# Altium footprint library DecoLED.PcbLib: 14 footprints
Each footprint in its own frame and in the unit in brackets; x right, y up, seen from the top. Pads: shape width x height; smd on the part's side, far side on the other; paste and mask are expansions set on the pad; w line width, h text height; cw(c..) or ccw(c..) is an arc to the next point about the centre after c.
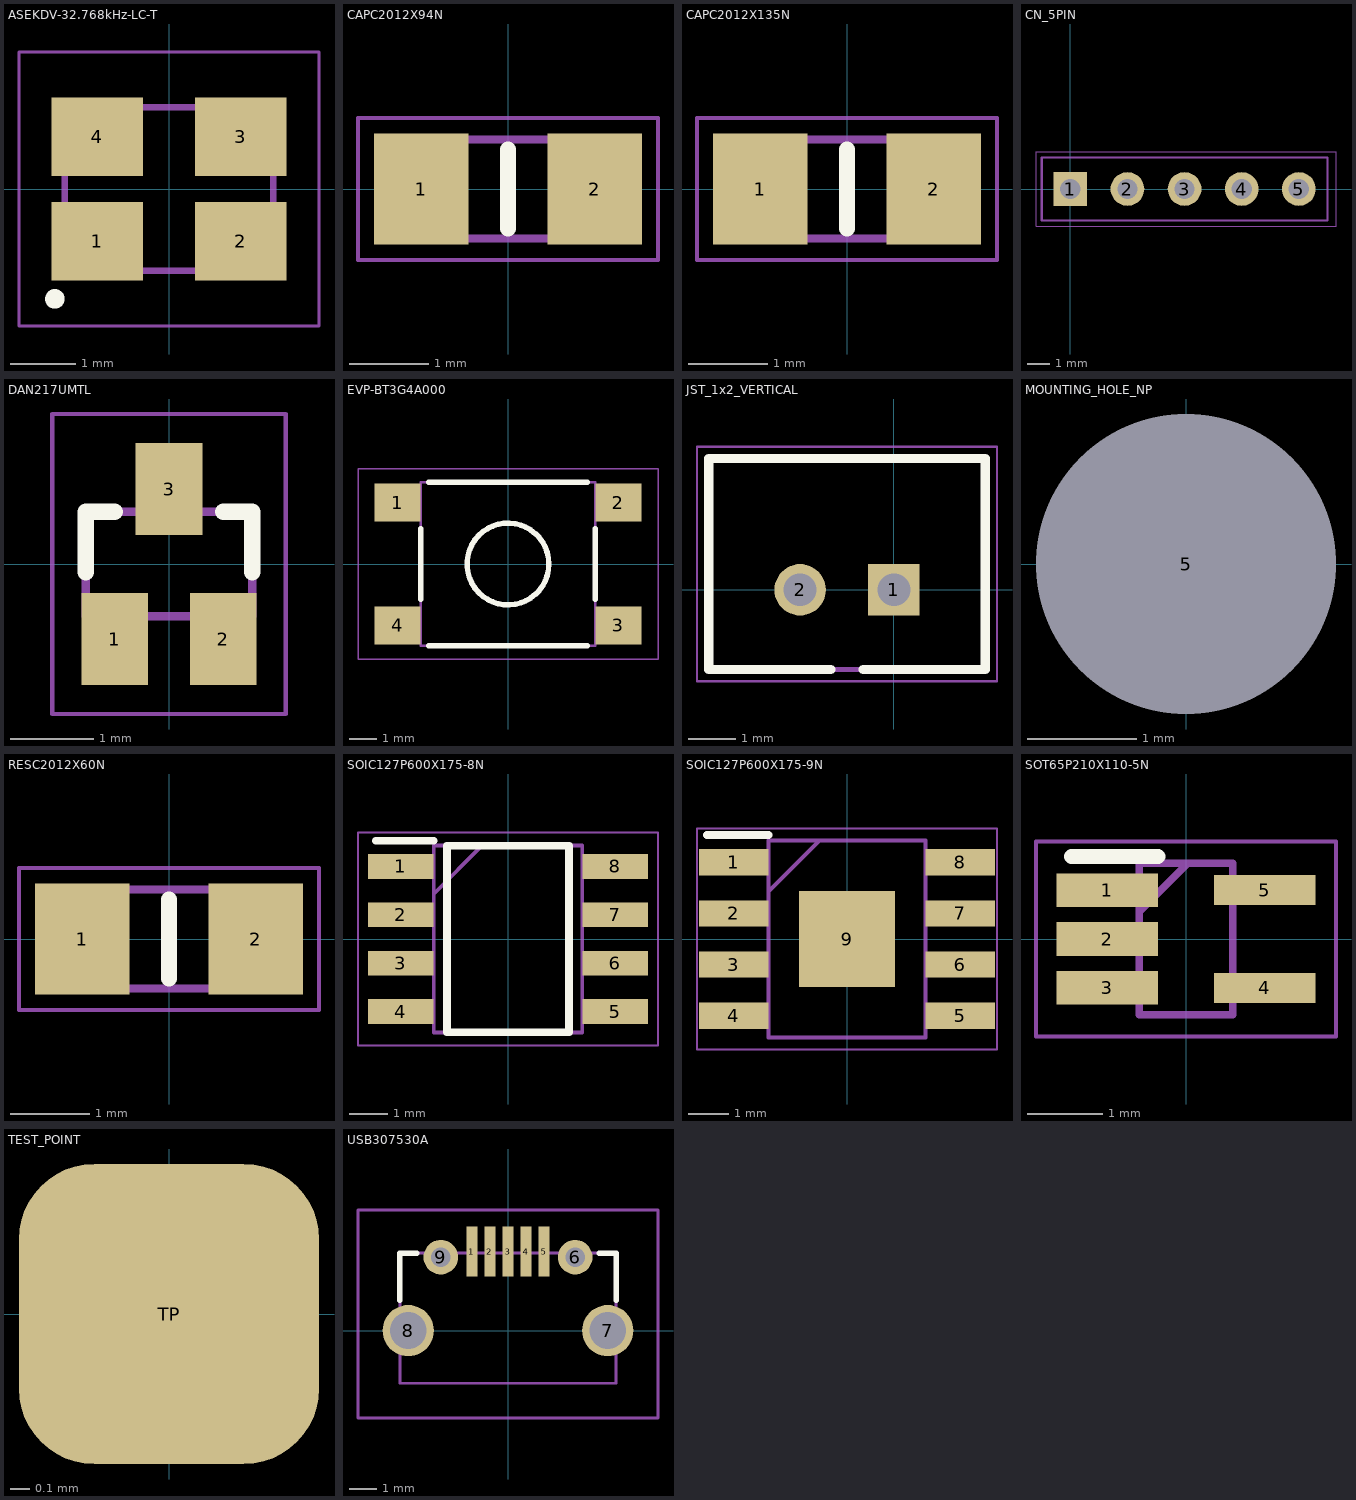
[diagram p0: the footprints below, top view; thin cyan lines are the x and y axes]

## ASEKDV-32.768kHz-LC-T [mm]
pads (4):
  rect 1.4x1.2 smd: 1(-1.1,-0.8) 2(1.1,-0.8) 3(1.1,0.8) 4(-1.1,0.8)
Top Overlay:
  lines w0.2: -1.699,-1.686 ccw(c-1.75,-1.686) -1.8,-1.686 ; -1.8,-1.686 ccw(c-1.75,-1.686) -1.701,-1.686 cw(c-1.75,-1.686) -1.8,-1.686
Mechanical 13:
  lines w0.1: -1.6,-1.25 1.6,-1.25 1.6,1.25 -1.6,1.25 -1.6,-1.25
Mechanical 15:
  lines w0.05: -2.3,-2.1 2.3,-2.1 2.3,2.1 -2.3,2.1 -2.3,-2.1
3D body: height 1.2, standoff 0, extent -1.6,-1.25 1.6,1.25

## CAPC2012X94N [mm]
pads (2):
  rect 1.2x1.4 smd: 1(-1.1,0) 2(1.1,0)
Top Overlay:
  lines w0.2: 0,-0.5 0,0.5
Mechanical 13:
  lines w0.1: -1,-0.625 1,-0.625 1,0.625 -1,0.625 -1,-0.625
Mechanical 15:
  lines w0.05: -1.9,-0.9 -1.9,0.9 1.9,0.9 1.9,-0.9 -1.9,-0.9
3D body "08055A4R3CAT2A.stp": height 0.94, standoff 0, extent -1.005,-0.625 1.005,0.625

## CAPC2012X135N [mm]
pads (2):
  rect 1.2x1.4 smd: 1(-1.1,0) 2(1.1,0)
Top Overlay:
  lines w0.2: 0,-0.5 0,0.5
Mechanical 13:
  lines w0.1: -1,-0.625 1,-0.625 1,0.625 -1,0.625 -1,-0.625
Mechanical 15:
  lines w0.05: -1.9,-0.9 -1.9,0.9 1.9,0.9 1.9,-0.9 -1.9,-0.9
3D body "885012107015.stp": height 1.35, standoff 0, extent -1,-0.625 1,0.625

## CN_5PIN [mm] "Connector; Edge; 22 Position"
pads (5):
  rect 1.5x1.5 hole 0.9: 1(0,0)
  round 1.5 hole 0.9: 2(2.54,0) 3(5.08,0) 4(7.62,0) 5(10.16,0)
Mechanical 13:
  lines w0.1: -1.27,-1.397 -1.27,1.397 11.43,1.397 11.43,-1.397 -1.27,-1.397
Mechanical 15:
  lines w0.05: -1.524,-1.651 11.811,-1.651 11.811,1.651 -1.524,1.651 -1.524,-1.651
3D body "pin_header_aw140-eg-g05d.SLDPRT": height 8.2, standoff -3, extent -1.17,-1.246 11.53,1.253

## DAN217UMTL [mm]
pads (3):
  rect 0.8x1.1 smd: 1(-0.65,-0.9) 2(0.65,-0.9) 3(0,0.9)
Top Overlay:
  lines w0.2: -1,-0.1 -1,0.6 -1,0.625 -0.65,0.625 ; 0.65,0.625 1,0.625 1,-0.1
Mechanical 13:
  lines w0.1: -1,-0.625 1,-0.625 1,0.625 -1,0.625 -1,-0.625
Mechanical 15:
  lines w0.05: -1.4,-1.8 -1.4,1.8 1.4,1.8 1.4,-1.8 -1.4,-1.8
3D body "RB715UMTL.stp": height 1.1, standoff 0, extent -1,-1.17 1,1.17

## EVP-BT3G4A000 [mm]
pads (4):
  rect 1.7x1.4 smd: 1(-4.05,2.25) 2(4.05,2.25) 3(4.05,-2.25) 4(-4.05,-2.25)
Top Overlay:
  circle w0.2: c0,0 r1.5
  lines w0.2: -3.2,-1.3 -3.2,1.3 ; -2.9,-3 2.9,-3 ; -2.9,3 2.9,3 ; 3.2,-1.3 3.2,1.3
Mechanical 13:
  lines w0.1: -3.2,-3 3.2,-3 3.2,3 -3.2,3 -3.2,-3
Mechanical 15:
  lines w0.05: -5.5,-3.5 5.5,-3.5 5.5,3.5 -5.5,3.5 -5.5,-3.5
3D body: height 4.3, standoff 0, extent -1.9,-1.9 1.9,1.9
3D body: height 1.8, standoff 0, extent -3.2,-3 3.2,3

## JST_1x2_VERTICAL [mm]
pads (2):
  rect 1.1x1.1 hole 0.7: 1(0,0)
  round 1.1 hole 0.7: 2(-2,0)
Top Overlay:
  lines w0.2: -1.35,-1.7 -3.95,-1.7 -3.95,2.8 1.95,2.8 1.95,-1.7 -0.65,-1.7
Mechanical 13:
  lines w0.1: -3.95,-1.7 -3.95,2.8 1.95,2.8 1.95,-1.7 -3.95,-1.7
Mechanical 15:
  lines w0.05: -4.2,-1.95 -4.2,3.05 2.2,3.05 2.2,-1.95 -4.2,-1.95
3D body "User Library-JST B2B-PH-K-S.sldprt": height 6, standoff -3.4, extent -3.95,-1.7 1.95,2.8

## MOUNTING_HOLE_NP [mil]
pads (1):
  round 60 hole 108.27 unplated mask+86.61: 5(0,0)

## RESC2012X60N [mm]
pads (2):
  rect 1.2x1.4 smd: 1(-1.1,0) 2(1.1,0)
Top Overlay:
  lines w0.2: 0,-0.5 0,0.5
Mechanical 13:
  lines w0.1: -1,-0.625 1,-0.625 1,0.625 -1,0.625 -1,-0.625
Mechanical 15:
  lines w0.05: -1.9,-0.9 -1.9,0.9 1.9,0.9 1.9,-0.9 -1.9,-0.9
3D body "RC0805FR-0710KL.stp": height 0.6, standoff 0, extent -1,-0.625 1,0.625

## SOIC127P600X175-8N [mm]
pads (8):
  rect 1.725x0.65 smd: 1(-2.812,1.905) 2(-2.812,0.635) 3(-2.812,-0.635) 4(-2.812,-1.905) 5(2.812,-1.905) 6(2.812,-0.635) 7(2.812,0.635) 8(2.812,1.905)
Top Overlay:
  lines w0.2: -3.475,2.58 -1.95,2.58 ; -1.6,-2.45 -1.6,2.45 1.6,2.45 1.6,-2.45 -1.6,-2.45
Mechanical 13:
  lines w0.1: -1.95,1.18 -0.68,2.45 ; -1.95,-2.45 -1.95,2.45 1.95,2.45 1.95,-2.45 -1.95,-2.45
Mechanical 15:
  lines w0.05: -3.937,-2.794 -3.937,2.794 3.937,2.794 3.937,-2.794 -3.937,-2.794
3D body "STM32G030J6M6.stp": height 1.75, standoff 0, extent -3,-2.45 3,2.45

## SOIC127P600X175-9N [mm]
pads (9):
  rect 1.725x0.65 smd: 1(-2.812,1.905) 2(-2.812,0.635) 3(-2.812,-0.635) 4(-2.812,-1.905) 5(2.812,-1.905) 6(2.812,-0.635) 7(2.812,0.635) 8(2.812,1.905)
  rect 2.39x2.39 smd: 9(0,0)
Top Overlay:
  lines w0.2: -3.475,2.58 -1.95,2.58
Mechanical 13:
  lines w0.1: -1.95,1.18 -0.68,2.45 ; -1.95,-2.45 1.95,-2.45 1.95,2.45 -1.95,2.45 -1.95,-2.45
Mechanical 15:
  lines w0.05: -3.725,-2.75 3.725,-2.75 3.725,2.75 -3.725,2.75 -3.725,-2.75
3D body "TB67H450FNG,EL.stp": height 1.75, standoff 0, extent -2.997,-2.45 2.997,2.45

## SOT65P210X110-5N [mm]
pads (5):
  rect 1.35x0.45 smd: 1(-1.05,0.65) 2(-1.05,0) 3(-1.05,-0.65)
  rect 1.35x0.4 smd: 4(1.05,-0.65) 5(1.05,0.65)
Top Overlay:
  lines w0.2: -1.525,1.1 -0.375,1.1
Mechanical 13:
  lines w0.1: -0.625,0.362 0.025,1.012 ; -0.625,-1.012 0.625,-1.012 0.625,1.012 -0.625,1.012 -0.625,-1.012
Mechanical 15:
  lines w0.05: -2,-1.3 2,-1.3 2,1.3 -2,1.3 -2,-1.3
3D body "MIC5365-3.3YC5-TR.stp": height 1.1, standoff 0, extent -1.05,-1.012 1.05,1.012

## TEST_POINT [mil] "Test point"
pads (1):
  rrect50% 60x60 smd: TP(0,0)

## USB307530A [mm]
pads (9):
  rect 0.4x1.8 smd mask+0.125: 1(-1.3,2.85) 2(-0.65,2.85) 3(0,2.85) 4(0.65,2.85) 5(1.3,2.85)
  round 1.25 hole 0.7 mask+0.102: 6(2.425,2.65)
  round 1.85 hole 1.328: 7(3.6,0) 8(-3.6,0)
  round 1.25 hole 0.7: 9(-2.425,2.65)
Top Overlay:
  lines w0.2: -3.9,1.1 -3.9,2.8 -3.3,2.8 ; 3.3,2.8 3.9,2.8 3.9,1.1
Top Solder:
  region: -2,3.2 -1.6,3.2 -1.6,2.1 -2,2.1
  region: 1.6,3.2 2,3.2 2,2.1 1.6,2.1
Mechanical 13:
  lines w0.1: -3.9,-1.9 -3.9,2.8 3.9,2.8 3.9,-1.9 -3.9,-1.9
Mechanical 15:
  lines w0.1: -5.415,-3.15 -5.415,4.35 5.415,4.35 5.415,-3.15 -5.415,-3.15
3D body "USB3075-30-A.stp": height 2.49, standoff -1.17, extent -3.9,-2.765 3.9,2.775